# Altium schematic symbol library led_ext_board.SchLib: 11 symbols
Pins are listed as number, name and electrical type; pins without a type are passive.

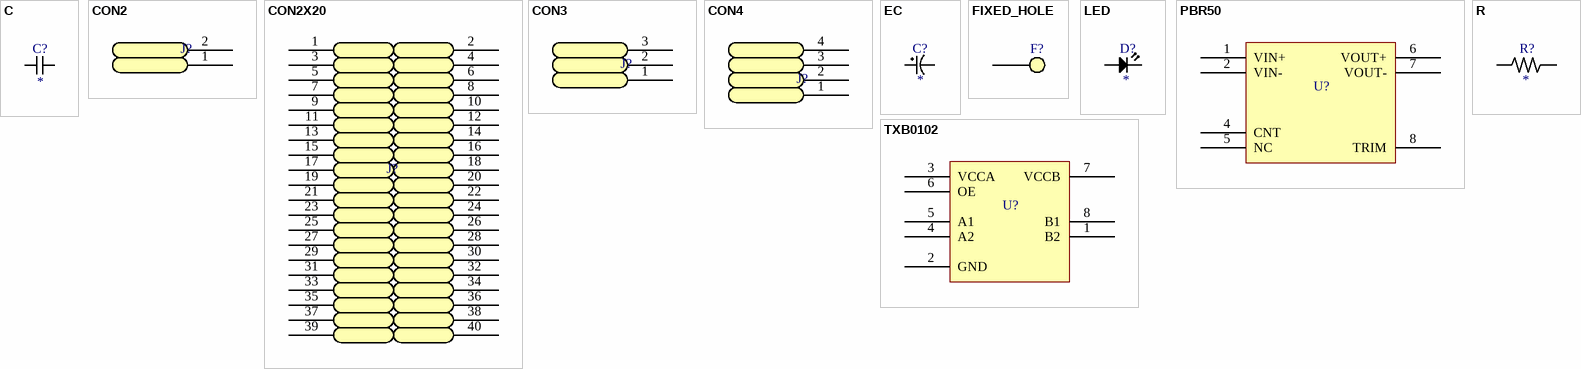
[diagram p0: symbols C to TXB0102]

## C
designator C?
Non-polarized Capacitor; Value: *
footprint CAP1608L
pins: 1, 2

## CON2
designator J?  (value not drawn)
Generic Connector 2 Pin
footprint DG128-5.0-02P
pins: 1 "Generic Connector 2 Pin", 2 "Generic Connector 2 Pin"

## CON2X20
designator J?  (value not drawn)
Generic Connector 2X20
footprint HS-2X20-2.54-V
pins: 1, 2, 3, 4, 5, 6, 7, 8, 9, 10, 11, 12, 13, 14, 15, 16, 17, 18, 19, 20, 21, 22, 23, 24, 25, 26, 27, 28, 29, 30, 31, 32, 33, 34, 35, 36, 37, 38, 39, 40

## CON3
designator J?  (value not drawn)
Generic Connector 3 Pin
footprint DG128-5.0-03P
pins: 1 "Generic Connector 2 Pin", 2 "Generic Connector 2 Pin", 3 "Generic Connector 2 Pin"

## CON4
designator J?  (value not drawn)
Generic Connector 4 Pin
footprint DG128-5.0-04P
pins: 1 "Generic Connector 2 Pin", 2 "Generic Connector 2 Pin", 3 "Generic Connector 2 Pin", 4 "Generic Connector 2 Pin"

## EC
designator C?
Polarized Capacitor; Value: *
footprint EC-J10-10X10 (Aluminum Electrolytic Capacitor D10 - L10)
pins: 1, 2

## FIXED_HOLE
designator F?  (value not drawn)
footprint FIXED_HOLE_PAD
pins: 1

## LED
designator D?
Typical LED; Value: *
footprint LED1608L
pins: 1, 2

## PBR50
designator U?, comment PBR50 Series DC-DC Converter  (value not drawn)
footprint PBR50-24-5
pins: 1 VIN+, 2 VIN-, 4 CNT, 5 NC, 6 VOUT+, 7 VOUT-, 8 TRIM

## R
designator R?
Resistor; Value: *
footprint RES1608L
pins: 1, 2

## TXB0102
designator U?  (value not drawn)
footprint TXB0102
pins: 1 B2, 2 GND, 3 VCCA, 4 A2, 5 A1, 6 OE, 7 VCCB, 8 B1